# EAGLE library part RJ45-VS (library noah)
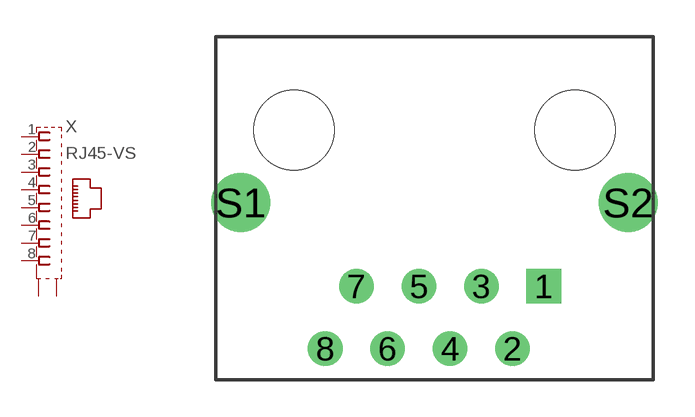
[diagram p51: symbol with the pads of RJ45-VS; footprint RJ45-VS]

Designator prefix X

## RJ45-VS  [RJ45-VS]
1  1  pas
2  2  pas
3  3  pas
4  4  pas
5  5  pas
6  6  pas
7  7  pas
8  8  pas
S1  S1  pas
S2  S2  pas

## Footprint RJ45-VS (pad centres in mm)
vertical shielded RJ45 (ethernet) connector, pcb mount, e.g. Digi-Key AE10399-ND
drill 0.9 square: 1 4.445,-6.35
drill 0.9: 2 3.175,-8.89; 3 1.905,-6.35; 4 0.635,-8.89; 5 -0.635,-6.35; 6 -1.905,-8.89; 7 -3.175,-6.35; 8 -4.445,-8.89
drill 1.6: S1 -7.875,-2.94; S2 7.875,-2.94
hole 3.25 at -5.715,0.01
hole 3.25 at 5.715,0.01